# Altium schematic symbol library ATK-MB024.SCHLIB: 19 symbols
Pins are listed as number, name and electrical type; pins without a type are passive.

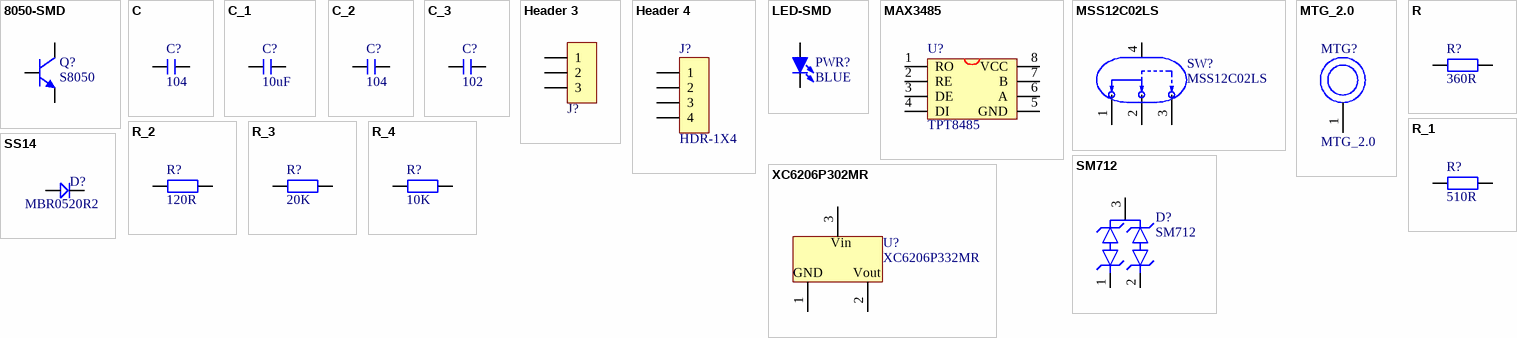
[diagram p0: symbols 8050-SMD to XC6206P302MR]

## 8050-SMD
designator Q?, comment S8050
高频放大-NPN型; 版权归属: 正点原子; 属性: 40V 1.5A 1W 100MHZ; BOM名称: 高频放大-NPN型; 学习资源: www.openedv.com
footprint SOT23-3N (3x1.3x1mm(长宽高))
footprint SOT23-3L (3x1.3x1mm(长宽高))
footprint SOT23-3M (3x1.3x1mm(长宽高))
footprint SOT323-3L (2x2.2x0.9mm(长宽高))
footprint SOT323-3N (2x2.2x0.9mm(长宽高))
footprint SOT323-3M (2x2.2x0.9mm(长宽高))
pins: 1 B, 2 E, 3 C

## C
designator C?, comment 104
无极性电容; BOM名称: 无极性贴片电容; 版权归属: 正点原子; 学习资源: www.openedv.com
footprint C 0201 (无极性贴片电容)
footprint C 0402 (无极性贴片电容)
footprint C 0603 (无极性贴片电容)
footprint C 0805 (无极性贴片电容)
footprint C 1206 (无极性贴片电容)
footprint C 1210 (无极性贴片电容)
footprint C 1808 (无极性贴片电容)
footprint C 1812 (无极性贴片电容)
footprint C 1825 (无极性贴片电容)
footprint C 2225 (无极性贴片电容)
pins: 1, 2

## C_1
designator C?, comment 10uF
无极性电容; BOM名称: 无极性贴片电容; 版权归属: 正点原子; 学习资源: www.openedv.com
footprint C 0201 (无极性贴片电容)
footprint C 0402 (无极性贴片电容)
footprint C 0603 (无极性贴片电容)
footprint C 0805 (无极性贴片电容)
footprint C 1206 (无极性贴片电容)
footprint C 1210 (无极性贴片电容)
footprint C 1808 (无极性贴片电容)
footprint C 1812 (无极性贴片电容)
footprint C 1825 (无极性贴片电容)
footprint C 2225 (无极性贴片电容)
pins: 1, 2

## C_2
designator C?, comment 104
无极性贴片电容; 版权归属: 正点原子; BOM名称: 无极性贴片电容; 学习资源: www.openedv.com
footprint C 0201 (无极性贴片电容)
footprint C 0402 (无极性贴片电容)
footprint C 0603 (无极性贴片电容)
footprint C 0805 (无极性贴片电容)
footprint C 1206 (无极性贴片电容)
footprint C 1210 (无极性贴片电容)
footprint C 1808 (无极性贴片电容)
footprint C 1812 (无极性贴片电容)
footprint C 1825 (无极性贴片电容)
footprint C 2225 (无极性贴片电容)
pins: 1, 2

## C_3
designator C?, comment 102
无极性电容; BOM名称: 无极性贴片电容; 版权归属: 正点原子; 学习资源: www.openedv.com
footprint C 0201 (无极性贴片电容)
footprint C 0402 (无极性贴片电容)
footprint C 0603 (无极性贴片电容)
footprint C 0805 (无极性贴片电容)
footprint C 1206 (无极性贴片电容)
footprint C 1210 (无极性贴片电容)
footprint C 1808 (无极性贴片电容)
footprint C 1812 (无极性贴片电容)
footprint C 1825 (无极性贴片电容)
footprint C 2225 (无极性贴片电容)
pins: 1, 2

## Header 3
designator J?, comment Header 1X3  (value not drawn)
3P接插件; 版权归属: 正点原子; Parameter: 接插件; BOM名称: 3P接插件; 学习资源: www.openedv.com
footprint PH2.0-3P H-S (PH座子2.0mm 3P 卧式贴片)
footprint PH2.0-3P H-T (PH座子2.0mm 3P 卧式弯插)
footprint PH2.0-3P V-T (PH座子2.0mm 3P 立式直插)
footprint XH2.54-3P H-T (XH座子 2.54mm 3P 卧式弯插)
footprint XH2.54-3P V-T (XH座子 2.54mm 3P 立式直插)
footprint VH3.96-3P H-T (VH座子3.96mm 3P 卧式弯插)
footprint VH3.96-3P V-T (VH座子3.96mm 3P 立式直插)
footprint Header 2.54 1X3P (排针(1X3P,2.54,直插))
footprint Header 2.54 1X3P-H (排针(1X3P,2.54,弯插))
footprint Header 2.54 1X3P-H-S (排针(1X3P,2.54,卧贴))
footprint Socket 2.54 1X3P (排座(1*3P,2.54,直插))
footprint Socket 2.54 1X3P-H (排座(1*3P,2.54弯插))
footprint Socket 2.54 1X3P-H-S (排座(1*3P,2.54,卧贴))
footprint KF2510-3P (PCB接线端子KF2510 2.54mm 3P 直插)
footprint KF350-3P (PCB接线端子KF350 3.5mm 3P 直插)
footprint KF301-3P (PCB接线端子KF301 5.0mm 3P 直插)
footprint KF7620-3P (PCB接线端子KF7620 7.62mm 3P)
footprint KF128-5.08-3P (PCB接线端子KF128 5.08mm 3P 直插)
footprint KF128-3.81-3P (PCB接线端子KF128 3.81mm 3P 直插)
footprint KF2EDGK5.08-3P_H (PCB接线端子KF2EDGK 5.08mm 3P 卧式弯插)
footprint KF2EDGK5.08-3P (PCB接线端子KF2EDGK 5.08mm 3P 立式直插)
footprint KF2EDGK5.0-3P_H (PCB接线端子KF2EDGK 5.0mm 3P 卧式弯插)
footprint KF2EDGK5.0-3P (PCB接线端子KF2EDGK 5.0mm 3P 立式直插)
footprint XHB2.54-3P H-T (XHB座子 2.54mm 3P 卧式弯插)
footprint KF301-3P (PCB接线端子KF301 5.0mm 3P 直插)
pins: 1, 2, 3

## Header 4
designator J?, comment HDR-1X4
footprint Header 2.54 1X4P (排针(1X4P,2.54,直插))
footprint Header 2.54 1X4P-H (排针(1X4P,2.54,弯插))
footprint Header 2.54 1X5P-H
pins: 1, 2, 3, 4

## LED-SMD
designator PWR?, comment BLUE
贴片LED; 版权归属: 正点原子; BOM名称: 贴片LED; 学习资源: www.openedv.com
footprint LED 0603W (白色0603LED)
footprint LED 0603R (红色0603LED)
footprint LED 0603B (蓝色0603LED)
footprint LED 0603G (绿色0603LED)
footprint LED 0603Y (黄色0603LED)
footprint LED 0805G (绿色0805LED)
footprint LED 0805R (红色0805LED)
footprint LED 0805B (蓝色0805LED)
footprint LED 0805Y (黄色0805LED)
footprint LED 3528 (白色3528LED)
footprint LED 1206G (绿色1206LED)
footprint LED 5730-V (紫色5730LED)
footprint LED 1206Y (黄色1206LED)
footprint LED 0805W (白色0805LED)
footprint LED 1206B (蓝色1206LED)
footprint LED 1206W (白色1206LED)
footprint LED 1206R (红色1206LED)
pins: 1 A, 2 K

## MAX3485
designator U?, comment TPT8485
footprint SOP-8 (SOP)
pins: 1 RO, 2 RE, 3 DE, 4 DI, 5 GND, 6 A, 7 B, 8 VCC

## MSS12C02LS
designator SW?
迷你小七脚波动开关; Manufacturer: SHOU HAN(首韩); Symbol: MSS12C02LS-BB2.0; Add into BOM: yes; Circuit: 单刀双掷; Pin Style: SMD接片; Switch Length: 6.65mm; Switch Width: 2.75mm; Switch Height: 1.4mm; Current Rating (DC): 100mA; Voltage Rating (DC): 12V; Mechanical Life: 1万次; Device: MSS12C02LS-BB2.0; LCSC Part Name: MSS12C02LS-BB2.0; Supplier Part: C3008585; Manufacturer Part: MSS12C02LS-BB2.0; Supplier Footprint: SMD; JLCPCB Part Class: Extended Part; Datasheet: https://atta.szlcsc.com/upload/public/pdf/source/20220429/8AEFBC67104491914BC5659DE1F359A3.pdf; Supplier: LCSC; Convert to PCB: yes; Actuator Style: -; Mounting Style: 立贴; Actuator Color: -; Current Rating (AC): -; Voltage Rating (AC): -; Operating Temperature: -25℃~+70℃
footprint SMD (拨动开关 7.35 2.25)
pins: 1, 2, 3, 4

## MTG_2.0
designator MTG?
2.0mm定位孔
footprint 定位孔2mm (M3l螺丝孔)
pins: 1

## R
designator R?, comment 360R
电阻; BOM名称: 贴片电阻; 版权归属: 正点原子; 学习资源: www.openedv.com; Parameter: 电阻
footprint R 0201 (1/20W贴片电阻)
footprint R 0402 (1/16W贴片电阻)
footprint R 0603 (1/10W贴片电阻)
footprint R 0805 (1/8W贴片电阻)
footprint R 1206 (1/4W贴片电阻)
footprint R 1210 (1/3W贴片电阻)
footprint R 1812 (1/2W贴片电阻)
footprint R 2010 (3/4W贴片电阻)
footprint R 2512 (1W贴片电阻)
pins: 1, 2

## R_1
designator R?, comment 510R
贴片电阻; 版权归属: 正点原子; BOM名称: 贴片电阻; 学习资源: www.openedv.com
footprint R 0201 (1/20W贴片电阻)
footprint R 0201-HP (1/20W高精度贴片电阻)
footprint R 0402 (1/16W贴片电阻)
footprint R 0402-HP (1/16W高精度贴片电阻)
footprint R 0603 (1/10W贴片电阻)
footprint R 0603-HP (1/10W高精度贴片电阻)
footprint R 0805 (1/8W贴片电阻)
footprint R 0805-HP (1/8W高精度贴片电阻)
footprint R 1206 (1/4W贴片电阻)
footprint R 1206-HP (1/4W高精度贴片电阻)
footprint R 1210 (1/3W贴片电阻)
footprint R 1210-HP (1/3W高精度贴片电阻)
footprint R 1812 (1/2W贴片电阻)
footprint R 1812-HP (1/2W高精度贴片电阻)
footprint R 2010 (3/4W贴片电阻)
footprint R 2010-HP (3/4W高精度贴片电阻)
footprint R 2512 (1W贴片电阻)
footprint R 2512-HP (1W高精度贴片电阻)
footprint R 2728-HP (4W高精度贴片电阻)
footprint LR 2725 (4W高精度贴片电阻)
pins: 1, 2

## R_2
designator R?, comment 120R
电阻; BOM名称: 贴片电阻; 版权归属: 正点原子; 学习资源: www.openedv.com; Parameter: 电阻
footprint R 0201 (1/20W贴片电阻)
footprint R 0402 (1/16W贴片电阻)
footprint R 0603 (1/10W贴片电阻)
footprint R 0805 (1/8W贴片电阻)
footprint R 1206 (1/4W贴片电阻)
footprint R 1210 (1/3W贴片电阻)
footprint R 1812 (1/2W贴片电阻)
footprint R 2010 (3/4W贴片电阻)
footprint R 2512 (1W贴片电阻)
pins: 1, 2

## R_3
designator R?, comment 20K
贴片电阻; 版权归属: 正点原子; BOM名称: 贴片电阻; 学习资源: www.openedv.com
footprint R 0201 (1/20W贴片电阻)
footprint R 0201-HP (1/20W高精度贴片电阻)
footprint R 0402 (1/16W贴片电阻)
footprint R 0402-HP (1/16W高精度贴片电阻)
footprint R 0603 (1/10W贴片电阻)
footprint R 0603-HP (1/10W高精度贴片电阻)
footprint R 0805 (1/8W贴片电阻)
footprint R 0805-HP (1/8W高精度贴片电阻)
footprint R 1206 (1/4W贴片电阻)
footprint R 1206-HP (1/4W高精度贴片电阻)
footprint R 1210 (1/3W贴片电阻)
footprint R 1210-HP (1/3W高精度贴片电阻)
footprint R 1812 (1/2W贴片电阻)
footprint R 1812-HP (1/2W高精度贴片电阻)
footprint R 2010 (3/4W贴片电阻)
footprint R 2010-HP (3/4W高精度贴片电阻)
footprint R 2512 (1W贴片电阻)
footprint R 2512-HP (1W高精度贴片电阻)
footprint R 2728-HP (4W高精度贴片电阻)
footprint LR 2725 (4W高精度贴片电阻)
pins: 1, 2

## R_4
designator R?, comment 10K
贴片电阻; 版权归属: 正点原子; BOM名称: 贴片电阻; 学习资源: www.openedv.com
footprint R 0201 (1/20W贴片电阻)
footprint R 0201-HP (1/20W高精度贴片电阻)
footprint R 0402 (1/16W贴片电阻)
footprint R 0402-HP (1/16W高精度贴片电阻)
footprint R 0603 (1/10W贴片电阻)
footprint R 0603-HP (1/10W高精度贴片电阻)
footprint R 0805 (1/8W贴片电阻)
footprint R 0805-HP (1/8W高精度贴片电阻)
footprint R 1206 (1/4W贴片电阻)
footprint R 1206-HP (1/4W高精度贴片电阻)
footprint R 1210 (1/3W贴片电阻)
footprint R 1210-HP (1/3W高精度贴片电阻)
footprint R 1812 (1/2W贴片电阻)
footprint R 1812-HP (1/2W高精度贴片电阻)
footprint R 2010 (3/4W贴片电阻)
footprint R 2010-HP (3/4W高精度贴片电阻)
footprint R 2512 (1W贴片电阻)
footprint R 2512-HP (1W高精度贴片电阻)
footprint R 2728-HP (4W高精度贴片电阻)
footprint LR 2725 (4W高精度贴片电阻)
pins: 1, 2

## SM712
designator D?
双向TVS; Manufacturer: 宏迦橙; Symbol: SM712_C7420375; Add into BOM: yes; polarity: 双向; Reverse Stand-Off Voltage (Vrwm): 12V；7V; Maximum Clamping Voltage: 15V; Peak Pulse Current (Ipp)@10/1000us: 12A; Peak Pulse Power Dissipation (Ppp)@10/1000us: 300W; Breakdown Voltage: 7.5V；13.5V; Reverse Leakage Current (Ir): 100nA; Number of Lines: 双路; Type: ESD; Device: SM712_C7420375; LCSC Part Name: SM712; Supplier Part: C7420375; Manufacturer Part: SM712; Supplier Footprint: SOT-23; JLCPCB Part Class: Extended Part; Datasheet: https://atta.szlcsc.com/upload/public/pdf/source/20230828/0FC27A1088C52CC912446121FEA414EC.pdf; Supplier: LCSC; Convert to PCB: yes; Operating Temperature: -55℃~125℃
footprint SOT23-3L (Footprint not found)
pins: 1, 2, 3

## SS14
designator D?, comment MBR0520R2
肖特基二极管; 版权归属: 正点原子; 属性: 40V/1A; BOM名称: 肖特基二极管; 学习资源: www.openedv.com
footprint SMA (4.5x2.6*2.2mm（长宽高，不包括引脚）)
footprint SOD-123 (2.7x1.6X1.1mm（长宽高，不包括引脚）)
footprint SOD-123F (2.7x1.6X1.1mm（长宽高，不包括引脚）)
footprint SOD-323 (1.8x1.3X0.9mm（长宽高，不包括引脚）)
footprint SOD-523 (1.2x0.8X0.6mm（长宽高，不包括引脚）)
footprint SOD-123F
pins: 1 A, 2 K

## XC6206P302MR
designator U?, comment XC6206P332MR
LDO, 100mA
footprint SOT23-3L (3x1.3x1mm(长宽高))
pins: 1 GND, 2 Vout, 3 Vin